# EAGLE library part DMP2200UDW (library transistors)
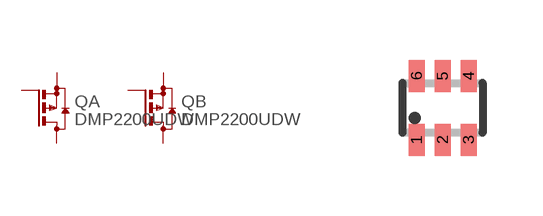
[diagram p0: symbol with the pads of SOT363; footprint SOT363]

Designator prefix Q; gates A=P-MOS B=P-MOS

## DMP2200UDW  [SOT363]
1  B:S  pas
2  B:G  pas
3  A:D  pas
4  A:S  pas
5  A:G  pas
6  B:D  pas

## Footprint SOT363 (pad centres in mm)
Small Outline Transistor; 6 leads Philips Semiconductors, SOT363.pdf
smd 0.4 x 0.8: 1 -0.65,-0.8; 2 0,-0.8; 3 0.65,-0.8; 4 0.65,0.8; 5 0,0.8; 6 -0.65,0.8